# Altium schematic symbol library C315C102KAG5TA.SchLib: 1 symbol
Pins are listed as number, name and electrical type; pins without a type are passive.

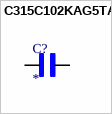
[diagram p0: symbol C315C102KAG5TA]

## C315C102KAG5TA
designator C?
1000 pF Â±10% 250V Ceramic Capacitor C0G, NP0 Radial; MF: KEMET; MP: C315C102KAG5TA; SnapEDA_Link: https://www.snapeda.com/parts/C315C102KAG5TA/Kemet/view-part/?ref=snap; Package: Radial Kemet; Value: *; Check_prices: https://www.snapeda.com/parts/C315C102KAG5TA/Kemet/view-part/?ref=eda
footprint CAPRR254W54L381T254H466
pins: 1, 2